# Altium schematic symbol library PMIC.SchLib: 13 symbols
Pins are listed as number, name and electrical type; pins without a type are passive.

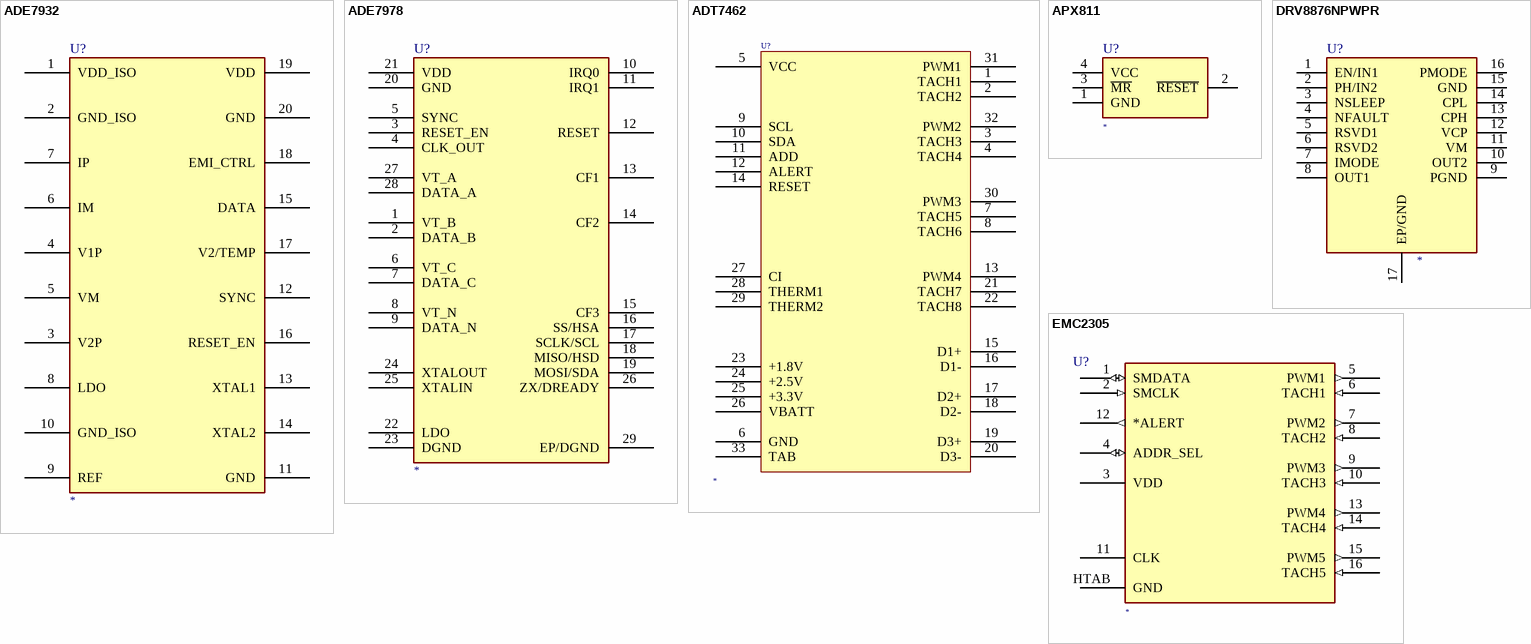
[diagram p0: symbols ADE7932 to EMC2305]

## ADE7932
designator U?
IC ADC/ENERGY MEAS 20SOIC; Manufacturer Part Number: *
pins: 1 VDD_ISO, 2 GND_ISO, 3 V2P, 4 V1P, 5 VM, 6 IM, 7 IP, 8 LDO, 9 REF, 10 GND_ISO, 11 GND, 12 SYNC, 13 XTAL1, 14 XTAL2, 15 DATA, 16 RESET_EN, 17 V2/TEMP, 18 EMI_CTRL, 19 VDD, 20 GND

## ADE7978
designator U?
IC ENERGY METERING 3PH 28LFCSP; Manufacturer Part Number: *
pins: 1 VT_B, 2 DATA_B, 3 RESET_EN, 4 CLK_OUT, 5 SYNC, 6 VT_C, 7 DATA_C, 8 VT_N, 9 DATA_N, 10 IRQ0, 11 IRQ1, 12 RESET, 13 CF1, 14 CF2, 15 CF3, 16 SS/HSA, 17 SCLK/SCL, 18 MISO/HSD, 19 MOSI/SDA, 20 GND, 21 VDD, 22 LDO, 23 DGND, 24 XTALOUT, 25 XTALIN, 26 ZX/DREADY, 27 VT_A, 28 DATA_A, 29 EP/DGND

## ADT7462
designator U?
32-VFQFN; Manufacturer Part Number: *
pins: 1 TACH1, 2 TACH2, 3 TACH3, 4 TACH4, 5 VCC, 6 GND, 7 TACH5, 8 TACH6, 9 SCL, 10 SDA, 11 ADD, 12 ALERT, 13 PWM4, 14 RESET, 15 D1+, 16 D1-, 17 D2+, 18 D2-, 19 D3+, 20 D3-, 21 TACH7, 22 TACH8, 23 +1.8V, 24 +2.5V, 25 +3.3V, 26 VBATT, 27 CI, 28 THERM1, 29 THERM2, 30 PWM3, 31 PWM1, 32 PWM2, 33 TAB

## APX811
designator U?
RESET SUPERVISOR; Manufacturer Part Number: *
pins: 1 GND, 2 ~{RESET}, 3 ~{MR}, 4 VCC

## DRV8876NPWPR
designator U?
H-Bridge Brushed DC Motor Driver 37-V, 3.5-A 16-HTSSOP; Manufacturer Part Number: *
pins: 1 EN/IN1, 2 PH/IN2, 3 NSLEEP, 4 NFAULT, 5 RSVD1, 6 RSVD2, 7 IMODE, 8 OUT1, 9 PGND, 10 OUT2, 11 VM, 12 VCP, 13 CPH, 14 CPL, 15 GND, 16 PMODE, 17 EP/GND

## EMC2305
designator U?
Fan Controller; Manufacturer Part Number: *
pins: 1 SMDATA (io), 2 SMCLK (in), 3 VDD (power), 4 ADDR_SEL (io), 5 PWM1 (out), 6 TACH1 (in), 7 PWM2 (out), 8 TACH2 (in), 9 PWM3 (out), 10 TACH3 (in), 11 CLK, 12 *ALERT (out), 13 PWM4 (out), 14 TACH4 (in), 15 PWM5 (out), 16 TACH5 (in), HTAB GND (power)

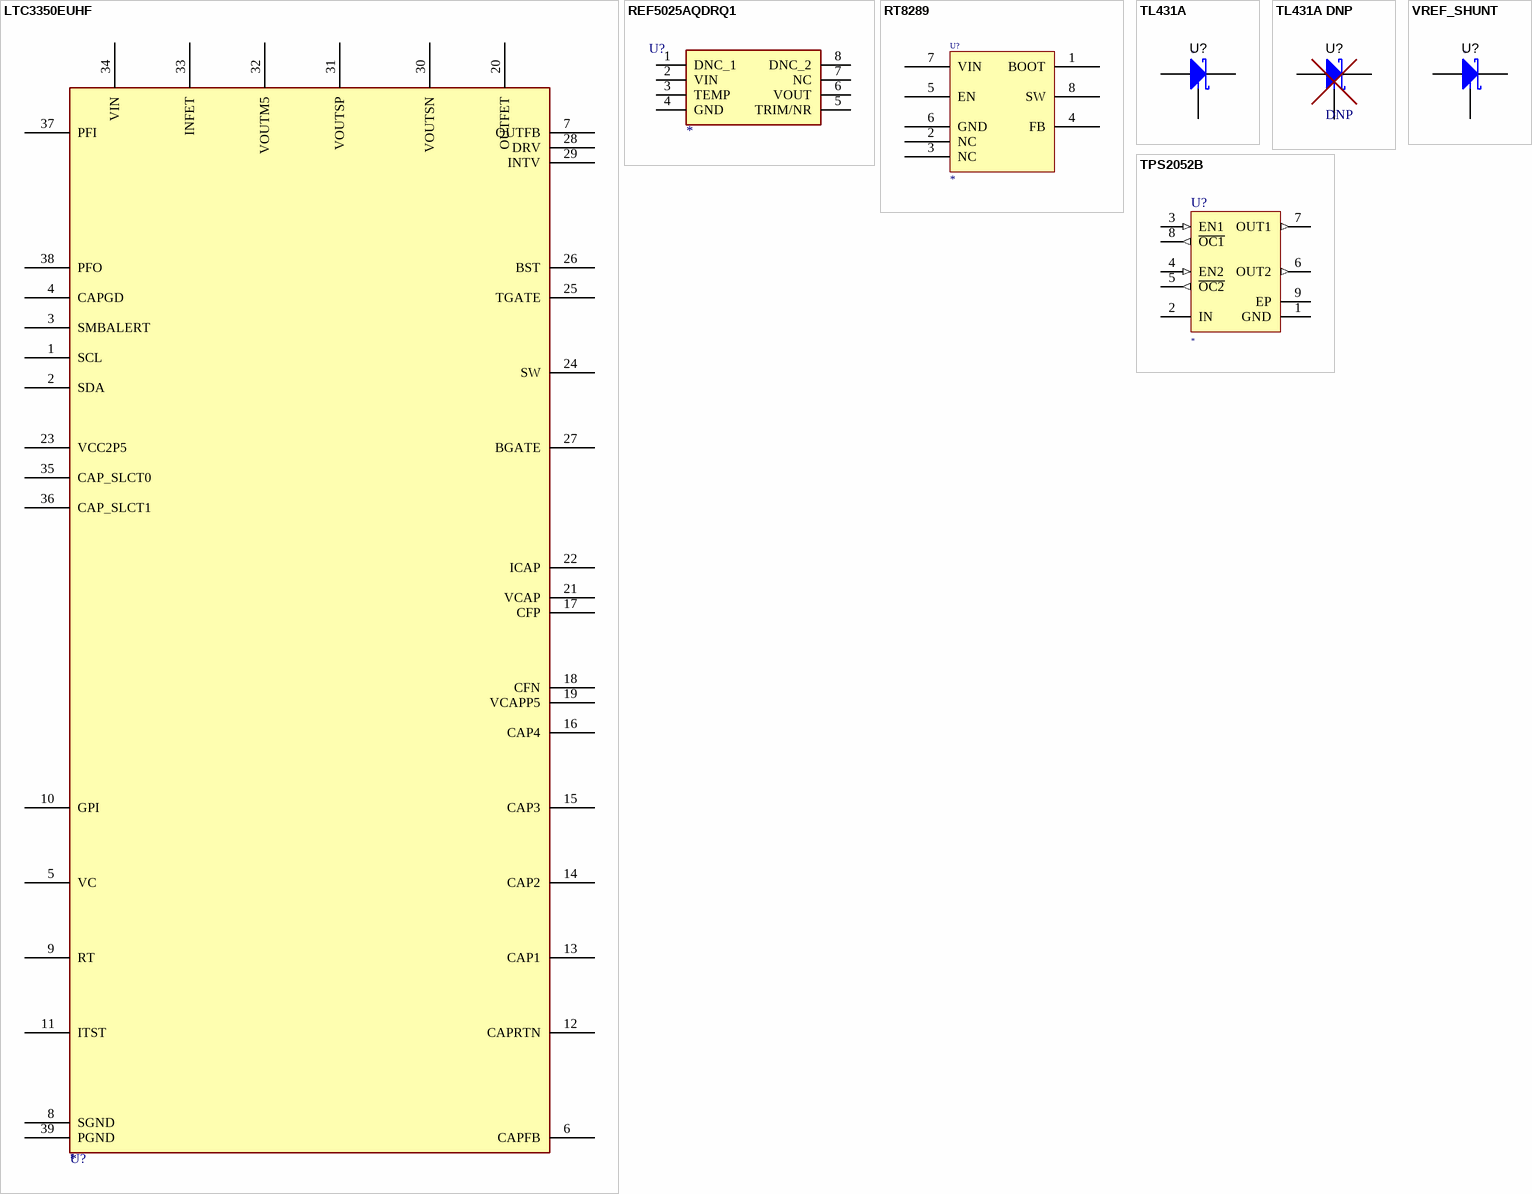
[diagram p1: symbols LTC3350EUHF to VREF_SHUNT]

## LTC3350EUHF
designator U?
BACKUP SUPERCAP CONTROLLER/CHARGER; Manufacturer Part Number: *
pins: 1 SCL, 2 SDA, 3 SMBALERT, 4 CAPGD, 5 VC, 6 CAPFB, 7 OUTFB, 8 SGND, 9 RT, 10 GPI, 11 ITST, 12 CAPRTN, 13 CAP1, 14 CAP2, 15 CAP3, 16 CAP4, 17 CFP, 18 CFN, 19 VCAPP5, 20 OUTFET, 21 VCAP, 22 ICAP, 23 VCC2P5, 24 SW, 25 TGATE, 26 BST, 27 BGATE, 28 DRV, 29 INTV, 30 VOUTSN, 31 VOUTSP, 32 VOUTM5, 33 INFET, 34 VIN, 35 CAP_SLCT0, 36 CAP_SLCT1, 37 PFI, 38 PFO, 39 PGND

## REF5025AQDRQ1
designator U?
IC VREF; Manufacturer Part Number: *
pins: 1 DNC_1, 2 VIN, 3 TEMP, 4 GND, 5 TRIM/NR, 6 VOUT, 7 NC, 8 DNC_2

## RT8289
designator U?, comment RT8289GSP  (value not drawn)
REG BUCK ADJUSTABLE 5A; Manufacturer Part Number: *
pins: 1 BOOT, 2 NC, 3 NC, 4 FB, 5 EN, 6 GND, 7 VIN, 8 SW

## TL431A
designator U?
VREF SHUNT 36V 1%; Manufacturer Part Number: *
pins: 1 REF, 2 K, 3 A

## TL431A DNP
designator U?, comment DNP
pins: 1 K, 2 REF, 3 A

## TPS2052B
designator U?
PWR SWITCH N-CHAN 1:2; Manufacturer Part Number: *
pins: 1 GND (power) "Ground", 2 IN "Input voltage", 3 EN1 (in) "Enable input, logic high turns on power switch IN-OUT1", 4 EN2 (in) "Enable input, logic high turns on power switch IN-OUT2", 5 ~{OC2} (out) "Overcurrent, open-drain output, active low, IN-OUT2", 6 OUT2 (out) "Power-switch output, IN-OUT2", 7 OUT1 (out) "Power-switch output, IN-OUT1", 8 ~{OC1} (out) "Overcurrent, open-drain output, active low, IN-OUT1", 9 EP (power) "Internally connected to GND; used to heat-sink the part to the circuit board traces. Should be connected to GND pin."

## VREF_SHUNT
designator U?
VREF SHUNT; Manufacturer Part Number: *
pins: 1 K, 2 A, 3 REF